# Altium schematic symbol library Analog & Interface.SchLib: 8 symbols
Pins are listed as number, name and electrical type; pins without a type are passive.

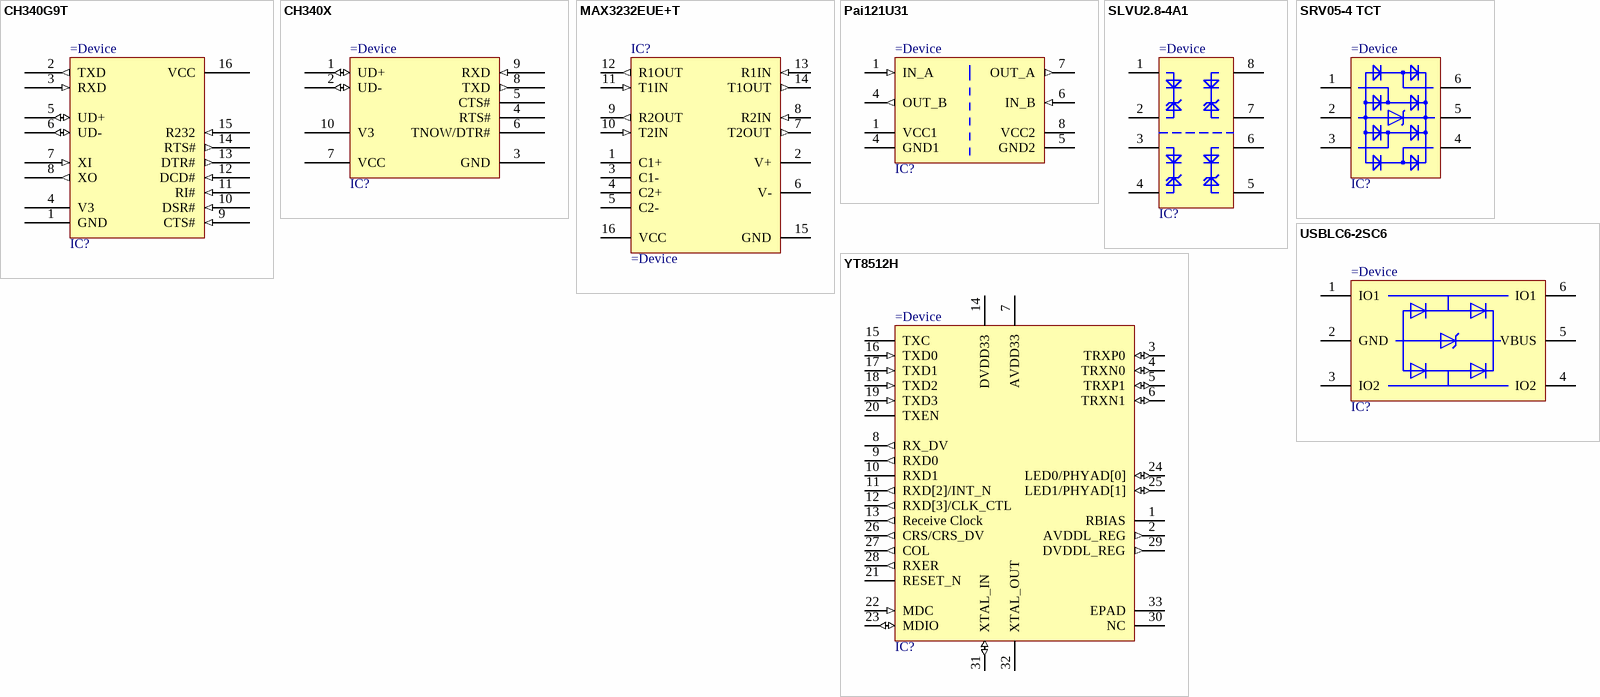
[diagram p0: symbols CH340G9T to YT8512H]

## CH340G9T
designator IC?
USB to TTL Serial / UART
footprint SOP16
pins: 1 GND (power), 2 TXD (out), 3 RXD (in), 4 V3 (power), 5 UD+ (io), 6 UD- (io), 7 XI (in), 8 XO (out), 9 CTS# (in), 10 DSR# (in), 11 RI# (in), 12 DCD# (in), 13 DTR# (out), 14 RTS# (out), 15 R232 (in), 16 VCC (power)

## CH340X
designator IC?
USB to TTL Serial / UART
footprint SOP16
pins: 1 UD+ (io), 2 UD- (io), 3 GND (power), 4 RTS# (power), 5 CTS#, 6 TNOW/DTR#, 7 VCC, 8 TXD (out), 9 RXD (in), 10 V3 (power)

## MAX3232EUE+T
designator IC?
3.0V to 5.5V, Low-Power, Up to 1Mbps, True RS-232 Transceivers
pins: 1 C1+, 2 V+, 3 C1-, 4 C2+, 5 C2-, 6 V-, 7 T2OUT (out), 8 R2IN (in), 9 R2OUT (out), 10 T2IN (in), 11 T1IN (in), 12 R1OUT (out), 13 R1IN (in), 14 T1OUT (out), 15 GND, 16 VCC

## Pai121U31
designator IC?
Enhanced ESD, 3.0 kV rms/6.0 kV rms 150Kbps Dual-Channel Digital Isolators
pins: 1 IN_A (in), 1 VCC1, 4 OUT_B (out), 4 GND1, 5 GND2, 6 IN_B (in), 7 OUT_A (out), 8 VCC2

## SLVU2.8-4A1
designator IC?
Low voltage unit for Gigabit Ethernet protection
pins: 1, 2, 3, 4, 5, 6, 7, 8

## SRV05-4 TCT
designator IC?
Low Capacitance TVS Diode Array
pins: 1, 2, 3, 4, 5, 6

## USBLC6-2SC6
designator IC?
Very low capacitance ESD protection
pins: 1 IO1, 2 GND, 3 IO2, 4 IO2, 5 VBUS, 6 IO1

## YT8512H
designator IC?
100M ETH PHY RMII; Manufacturer: Microchip; MPN: LAN8742AICZ; PartNo: xxxx; Install: S; Parttype: 集成电路
pins: 1 RBIAS, 2 AVDDL_REG (out) "Power Output", 3 TRXP0 (io), 4 TRXN0 (io), 5 TRXP1 (io), 6 TRXN1 (io), 7 AVDD33 (power) "3.3V Analog Power Input", 8 RX_DV (out) "Receive Data Valid", 9 RXD0 (out) "Receive Data [0]", 10 RXD1, 11 RXD[2]/INT_N (out), 12 RXD[3]/CLK_CTL (out), 13 Receive Clock (out), 14 DVDD33 (power) "3.3V Digital Power Input", 15 TXC, 16 TXD0 (in), 17 TXD1 (in), 18 TXD2 (in), 19 TXD3 (in), 20 TXEN, 21 RESET_N, 22 MDC (in), 23 MDIO (io), 24 LED0/PHYAD[0] (io), 25 LED1/PHYAD[1] (io), 26 CRS/CRS_DV (out), 27 COL (out), 28 RXER (out), 29 DVDDL_REG (out) "DVDDL Power Outpu", 30 NC, 31 XTAL_IN (io), 32 XTAL_OUT, 33 EPAD